# Altium integrated library MH.IntLib: 1 symbol
Pins are listed as number, name and electrical type; pins without a type are passive.

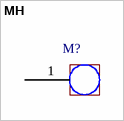
[diagram p0: symbol MH]

## MH
designator M?
footprint MH_6-3_5
pins: 1